# Altium footprint library Battery Holder.PcbLib: 2 footprints
Each footprint in its own frame and in the unit in brackets; x right, y up, seen from the top. Pads: shape width x height; smd on the part's side, far side on the other; paste and mask are expansions set on the pad; w line width, h text height; cw(c..) or ccw(c..) is an arc to the next point about the centre after c.
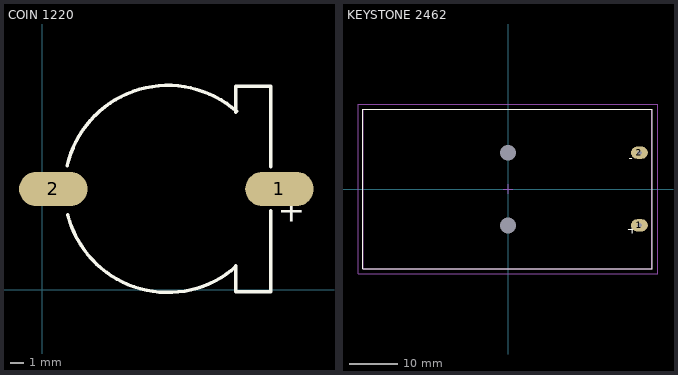
[diagram p0: the footprints below, top view; thin cyan lines are the x and y axes]

## COIN 1220 [mm]
pads (2):
  oval 5x2.5 smd: 1(17.316,7.361) 2(0.816,7.361)
Top Overlay:
  lines w0.254: 1.82,9.041 cw(c9.188,7.361) 14.201,13.016 ; 1.875,5.468 ccw(c9.157,7.326) 14.141,1.702 ; 14.141,1.773 14.141,-0.132 16.681,-0.132 16.681,5.768 ; 14.141,12.949 14.141,14.854 16.681,14.854 ; 16.681,8.985 16.681,14.785
  text "+" at 17.2,4.4 h3
3D body "User Library-cr1220.STEP": height 3.94, standoff -1, extent -0.25,-0.097 18.25,14.9

## KEYSTONE 2462 [mm]
height 16
pads (4):
  oval 3.5x2.5 hole 1.02 unplated: 1(27.165,-7.495) 2(27.165,7.495)
  rect 0x0 hole 3.3 unplated: M(-0.015,-7.495) M(-0.015,7.495)
Top Overlay:
  lines w0.2: -30,-16.5 -30,16.5 29.8,16.5 29.8,-16.5 -30,-16.5
  text "+" at 24.5,-10 h3.5
  text "-" at 25,5 h3
Mechanical 1:
  lines w0.2: -29.959,-16.459 29.755,-16.459 29.755,16.459 -29.959,16.459 -29.959,-16.459
Mechanical 15:
  lines w0.2: -1,0 1,0 ; 0,-1 0,1 ; -31,-17.5 -31,17.5 31,17.5 31,-17.5 -31,-17.5
3D body "Keystone 2462 Twin AA.STEP": height 16, standoff -11.99, extent -29.959,-16.459 29.755,16.459